# Altium schematic symbol library [IC] Логические микросхемы.SchLib: 6 symbols
Pins are listed as number, name and electrical type; pins without a type are passive.

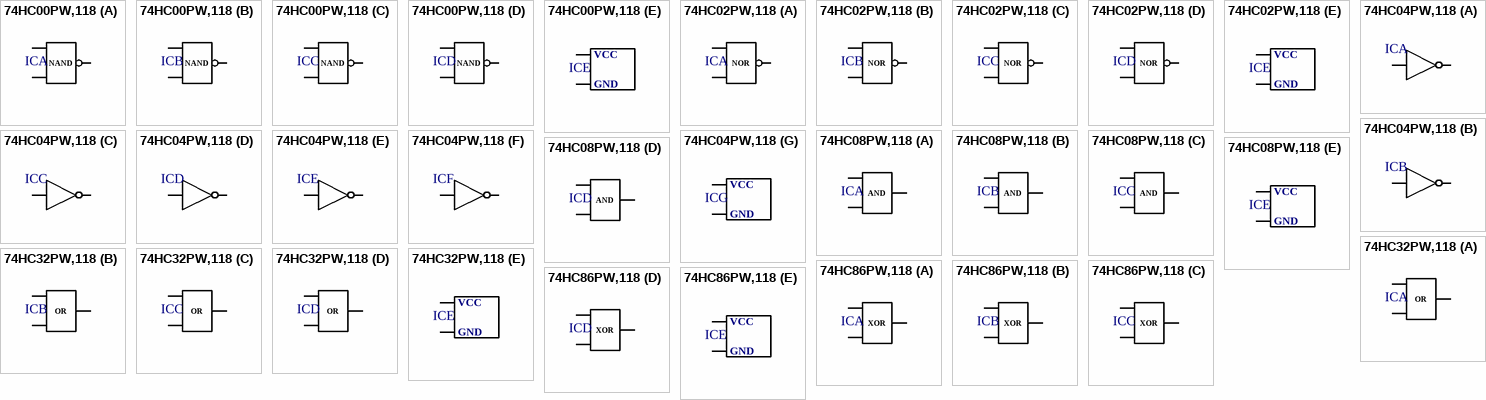
[diagram p0: symbols 74HC00PW,118 to 74HC86PW,118]

## 74HC00PW,118
designator IC
2-И-НЕ (4 элемента)
footprint TSSOP-14
part A pins: 1, 2, 3
part B pins: 4, 5, 6
part C pins: 8, 9, 10
part D pins: 3, 11, 12
part E pins: 7, 14
part A text: NAND
part B text: NAND
part C text: NAND
part D text: NAND
part E text: VCC; GND

## 74HC02PW,118
designator IC
2-ИЛИ-НЕ (4 элемента)
footprint TSSOP-14
part A pins: 1, 2, 3
part B pins: 4, 5, 6
part C pins: 8, 9, 10
part D pins: 11, 12, 13
part E pins: 7, 14
part A text: NOR
part B text: NOR
part C text: NOR
part D text: NOR
part E text: VCC; GND

## 74HC04PW,118
designator IC
НЕ (6 элементов)
footprint TSSOP-14
part A pins: 1, 2
part B pins: 3, 4
part C pins: 5, 6
part D pins: 8, 9
part E pins: 10, 11
part F pins: 12, 13
part G pins: 7, 14
part G text: VCC; GND

## 74HC08PW,118
designator IC
2-И (4 элемента)
footprint TSSOP-14
part A pins: 1, 2, 3
part B pins: 4, 5, 6
part C pins: 8, 9, 10
part D pins: 11, 12, 13
part E pins: 7, 14
part A text: AND
part B text: AND
part C text: AND
part D text: AND
part E text: VCC; GND

## 74HC32PW,118
designator IC
2-ИЛИ (4 элемента)
footprint TSSOP-14
part A pins: 1, 2, 3
part B pins: 4, 5, 6
part C pins: 8, 9, 10
part D pins: 11, 12, 13
part E pins: 7, 14
part A text: OR
part B text: OR
part C text: OR
part D text: OR
part E text: VCC; GND

## 74HC86PW,118
designator IC
2-ИСКЛЮЧАЮЩЕЕ ИЛИ (4 элемента)
footprint TSSOP-14
part A pins: 1, 2, 3
part B pins: 4, 5, 6
part C pins: 8, 9, 10
part D pins: 11, 12, 13
part E pins: 7, 14
part A text: XOR
part B text: XOR
part C text: XOR
part D text: XOR
part E text: VCC; GND